# Altium footprint library 6_to_14_Pin.PcbLib: 54 footprints (part 1 of 4)
Each footprint in its own frame and in the unit in brackets; x right, y up, seen from the top. Pads: shape width x height; smd on the part's side, far side on the other; paste and mask are expansions set on the pad; w line width, h text height; cw(c..) or ccw(c..) is an arc to the next point about the centre after c.
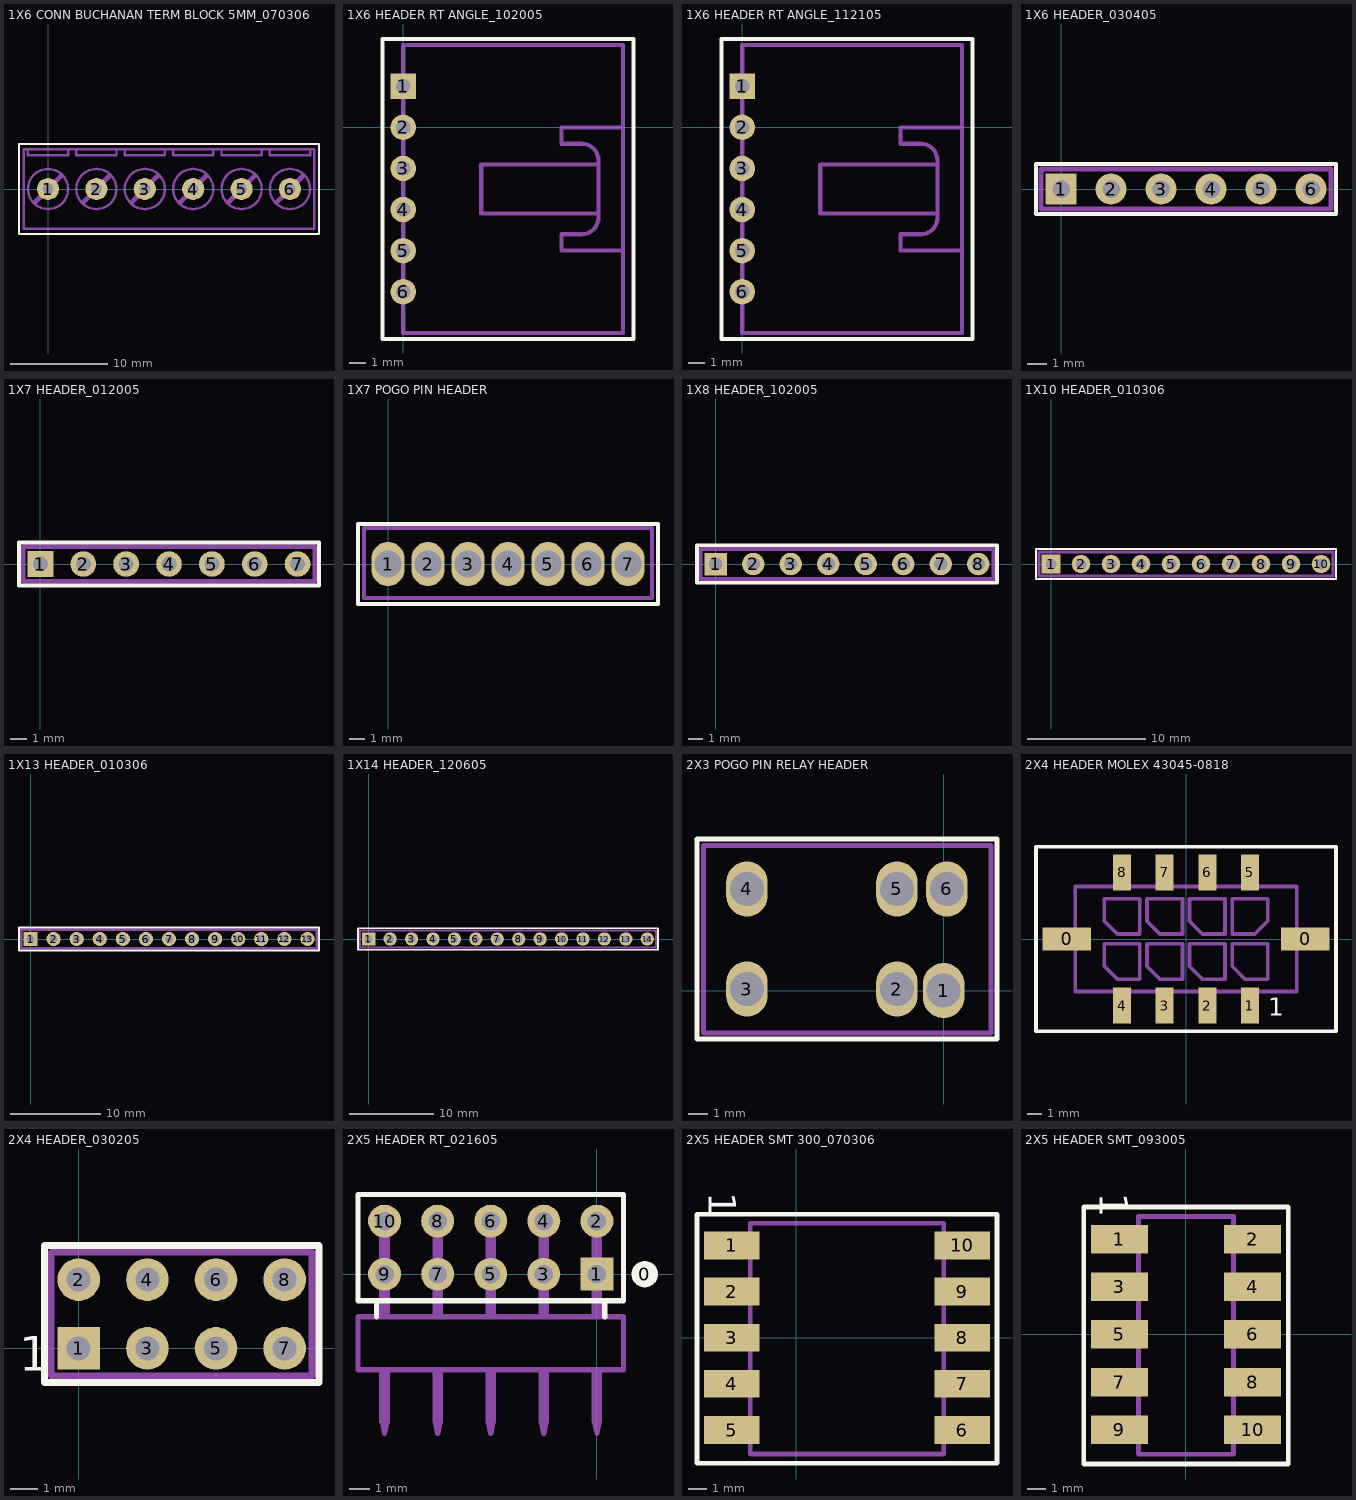
[diagram p0: the footprints below, top view; thin cyan lines are the x and y axes]

## 1X6 CONN BUCHANAN TERM BLOCK 5MM_070306 [mil] "TH"
height 393.7
pads (6):
  round 90 hole 45: 1(0,0) 2(196.85,0) 3(393.7,0) 4(590.55,0) 5(787.4,0) 6(984.25,0)
Top Overlay:
  lines w10: -118.11,-183.07 -118.11,0 -118.11,183.07 -16.73,183.07 1102.36,183.07 1102.36,0 1102.36,-183.07 1000.98,-183.07 -118.11,-183.07
Assembly Outline:
  circle w10: c0,0 r81.69
  circle w10: c196.85,0 r81.69
  circle w10: c393.7,0 r81.69
  circle w10: c590.55,0 r81.69
  circle w10: c787.4,0 r81.69
  circle w10: c984.25,0 r81.69
  lines w10: -81.69,161.42 -81.69,136.81 0,136.81 81.69,136.81 81.69,161.42 ; 115.16,161.42 115.16,136.81 196.85,136.81 278.54,136.81 278.54,161.42 ; 312.01,161.42 312.01,136.81 393.7,136.81 475.39,136.81 475.39,161.42 ; 508.86,161.42 508.86,136.81 590.55,136.81 672.24,136.81 672.24,161.42 ; 705.71,161.42 705.71,136.81 787.4,136.81 869.09,136.81 869.09,161.42 ; 902.56,161.42 902.56,136.81 984.25,136.81 1065.94,136.81 1065.94,161.42 ; -98.43,-161.42 0,-161.42 984.25,-161.42 1082.68,-161.42 1082.68,0 1082.68,161.42 984.25,161.42 0,161.42 -98.43,161.42 -98.43,0 -98.43,-161.42
  lines w20: -53.15,-53.15 0,0 53.15,53.15 ; 143.7,-53.15 196.85,0 250,53.15 ; 340.55,-53.15 393.7,0 446.85,53.15 ; 537.4,-53.15 590.55,0 643.7,53.15 ; 734.25,-53.15 787.4,0 840.55,53.15 ; 931.1,-53.15 984.25,0 1037.4,53.15
Assembly Designator:
  text ".Designator" at 464.57,-16.73 h40
Assembly Comment:
  text ".Comment" at 145.67,-113.19 h40

## 1X6 HEADER RT ANGLE_102005 [mil] "TH"
height 200
pads (6):
  rect 62x62 hole 35: 1(0,100)
  round 62 hole 35: 2(0,0) 3(0,-100) 4(0,-200) 5(0,-300) 6(0,-400)
Top Overlay:
  lines w10: -50,-515 -50,215 560,215 560,-515 -50,-515
Assembly Outline:
  lines w10: 0,-500 0,200 ; 0,-500 535,-500 ; 0,-500 535,-500 ; 0,-500 535,-500 ; 0,-500 535,-500 ; 0,200 535,200 ; 0,200 535,200 ; 0,200 535,200 ; 0,200 535,200 ; 190,-210 190,-90 ; 190,-210 475,-210 190,-210 ; 190,-90 475,-90 190,-90 ; 385,-300 385,-260 435,-260 ccw(c435,-220) 475,-220 475,-150 475,-80 ccw(c435,-80) 435,-40 385,-40 385,0 ; 385,-300 535,-300 385,-300 ; 385,0 535,0 ; 385,0 535,0 ; 535,-500 535,0 ; 535,0 535,200
Assembly Designator:
  text ".Designator" at 195,-165 h40
Assembly Comment:
  text ".Comment" at 132.87,-468.5 h40

## 1X6 HEADER RT ANGLE_112105 [mil] "TH"
height 200
pads (6):
  rect 62x62 hole 35: 1(0,100)
  round 62 hole 35: 2(0,0) 3(0,-100) 4(0,-200) 5(0,-300) 6(0,-400)
Top Overlay:
  lines w10: -50,-515 -50,215 560,215 560,-515 -50,-515
Assembly Outline:
  lines w10: 0,-500 0,200 ; 0,-500 0,200 ; 0,-500 535,-500 ; 0,-500 535,-500 ; 0,-500 535,-500 ; 0,-500 535,-500 ; 0,200 535,200 ; 0,200 535,200 ; 0,200 535,200 ; 0,200 535,200 ; 190,-210 190,-90 ; 190,-210 475,-210 190,-210 ; 190,-90 475,-90 190,-90 ; 385,-300 385,-260 435,-260 ccw(c435,-220) 475,-220 475,-150 475,-80 ccw(c435,-80) 435,-40 385,-40 385,0 ; 385,-300 535,-300 385,-300 ; 385,0 535,0 385,0 ; 535,-500 535,200
Assembly Designator:
  text ".Designator" at 195,-165 h40
Assembly Comment:
  text ".Comment" at 55,-370 h40

## 1X6 HEADER_030405 [mil] "TH"
height 300
pads (6):
  rect 62x62 hole 35: 1(0,0)
  round 62 hole 35: 2(100,0) 3(200,0) 4(300,0) 5(400,0) 6(500,0)
Top Overlay:
  lines w8: -50,-50 550,-50 550,50 -50,50 -50,-50
Assembly Outline:
  lines w8: -12,-12 -12,13 13,13 13,-12 -12,-12 ; 88,-12 88,13 113,13 113,-12 88,-12 ; 188,-12 188,13 213,13 213,-12 188,-12 ; 288,-12 288,13 313,13 313,-12 288,-12 ; 388,-12 388,13 413,13 413,-12 388,-12 ; 488,-12 488,13 513,13 513,-12 488,-12
  lines w10: -40,-40 540,-40 540,40 -40,40 -40,-40
Assembly Designator:
  text ".Designator" at 19,-17 h40
Assembly Comment:
  text ".Comment" at -13,-104 h40

## 1X7 HEADER_012005 [mil] "TH"
height 350
pads (7):
  rect 60x60 hole 35: 1(0,0)
  round 60 hole 35: 2(100,0) 3(200,0) 4(300,0) 5(400,0) 6(500,0) 7(600,0)
Top Overlay:
  lines w10: -50,-50 650,-50 650,50 -50,50 -50,-50
Assembly Outline:
  lines w10: -40,-40 -40,0 -40,40 640,40 640,-40 -40,-40
Assembly Designator:
  text ".Designator" at -29,54 h40
Assembly Comment:
  text ".Comment" at -43,-93 h40

## 1X7 POGO PIN HEADER [mil] "TH"
height 350
pads (7):
  oval 83x110 hole 68: 1(0,0) 2(100,0) 3(200,0) 4(300,0) 5(400,0) 6(500,0) 7(600,0)
Top Overlay:
  lines w10: -75,-100 -75,100 600,100 675,100 675,-100 -75,-100
Assembly Outline:
  lines w10: -60,-85 -60,90 660,90 660,-85 -60,-85
Assembly Designator:
  text ".Designator" at 190,-150 h40
Assembly Comment:
  text ".Comment" at 225,-15 h40

## 1X8 HEADER_102005 [mil] "TH"
height 350
pads (8):
  rect 60x60 hole 35: 1(0,0)
  round 60 hole 35: 2(100,0) 3(200,0) 4(300,0) 5(400,0) 6(500,0) 7(600,0) 8(700,0)
Top Overlay:
  lines w10: -50,-50 -50,50 750,50 750,-50 -50,-50
Assembly Outline:
  lines w10: -40,-40 740,-40 740,40 -40,40 -40,0 -40,-40
Assembly Designator:
  text ".Designator" at -29,54 h40
Assembly Comment:
  text ".Comment" at -43,-93 h40

## 1X10 HEADER_010306 [mil] "TH"
pads (10):
  rect 62x62 hole 35: 1(0,0)
  round 62 hole 35: 2(100,0) 3(200,0) 4(300,0) 5(400,0) 6(500,0) 7(600,0) 8(700,0) 9(800,0) 10(900,0)
Top Overlay:
  lines w8: -50,-50 950,-50 950,50 25,50 -50,50 -50,-50
Assembly Outline:
  lines w10: -40.01,-40 -40.01,40 939.99,40 939.99,-40 -40.01,-40
Assembly Designator:
  text ".Designator" at -29,54 h40
Assembly Comment:
  text ".Comment" at -43,-93 h40

## 1X13 HEADER_010306 [mil] "TH"
pads (13):
  rect 62x62 hole 35: 1(0,0)
  round 62 hole 35: 2(100,0) 3(200,0) 4(300,0) 5(400,0) 6(500,0) 7(600,0) 8(700,0) 9(800,0) 10(900,0) 11(1000,0) 12(1100,0) 13(1200,0)
Top Overlay:
  lines w8: -50,-50 1250,-50 1250,50 25,50 -50,50 -50,-50
Assembly Outline:
  lines w10: -40.01,-40 -40.01,40 1239.99,40 1239.99,-40 -40.01,-40
Assembly Designator:
  text ".Designator" at -29,54 h40
Assembly Comment:
  text ".Comment" at -43,-93 h40

## 1X14 HEADER_120605 [mil] "TH"
pads (14):
  rect 62x62 hole 35: 1(0,0)
  round 62 hole 35: 2(100,0) 3(200,0) 4(300,0) 5(400,0) 6(500,0) 7(600,0) 8(700,0) 9(800,0) 10(900,0) 11(1000,0) 12(1100,0) 13(1200,0) 14(1300,0)
Top Overlay:
  lines w8: -50,-50 -50,50 25,50 1350,50 1350,-50 -50,-50
Assembly Outline:
  lines w10: -40.01,-40 1339.99,-40 1339.99,40 -40.01,40 -40.01,-40
Assembly Designator:
  text ".Designator" at -29,54 h40
Assembly Comment:
  text ".Comment" at -43,-93 h40

## 2X3 POGO PIN RELAY HEADER [mil] "TH"
height 350
pads (6):
  oval 83x110 hole 68: 1(0,0) 2(-93.37,3.09) 3(-393.37,3.09) 4(-393.37,203.09) 5(-93.37,203.09) 6(6.63,203.09)
Top Overlay:
  lines w10: -493.37,-96.91 -493.37,303.09 106.63,303.09 106.63,3.09 106.63,-96.91 -493.37,-96.91
Assembly Outline:
  lines w10: -480,-85 95,-85 95,290 -480,290 -480,-85
Assembly Designator:
  text ".Designator" at -255,85 h40
Assembly Comment:
  text ".Comment" at -415,-145 h40

## 2X4 HEADER MOLEX 43045-0818 [mm] "SMT"
height 9.9
pads (10):
  rect 3.43x1.65 smd: 0(-8.4,0) 0(8.4,0)
  rect 1.27x2.54 smd: 1(4.5,-4.7) 2(1.5,-4.7) 3(-1.5,-4.7) 4(-4.5,-4.7) 5(4.5,4.7) 6(1.5,4.7) 7(-1.5,4.7) 8(-4.5,4.7)
Top Overlay:
  lines w0.254: -10.575,-6.5 0,-6.5 10.575,-6.5 10.575,0 10.575,6.5 0,6.5 -10.575,6.5 -10.575,0 -10.575,-6.5
  text "1" at 5.8,-5.4 h1.27
Assembly Outline:
  lines w0.254: -7.8,-0.6 -9.8,-0.6 -9.8,0 -9.8,0.6 -7.8,0.6 ; -4.825,-3.7 -4.825,-5.7 -4.5,-5.7 -4.175,-5.7 -4.175,-3.7 ; -4.825,3.7 -4.825,5.7 -4.5,5.7 -4.175,5.7 -4.175,3.7 ; -4.5,-2.825 -3.25,-2.825 ; -4.5,0.35 -3.25,0.35 ; -1.825,-3.7 -1.825,-5.7 -1.5,-5.7 -1.175,-5.7 -1.175,-3.7 ; -1.825,3.7 -1.825,5.7 -1.5,5.7 -1.175,5.7 -1.175,3.7 ; -1.5,-2.825 -0.25,-2.825 ; -1.5,0.35 -0.25,0.35 ; 1.175,-3.7 1.175,-5.7 1.5,-5.7 1.825,-5.7 1.825,-3.7 ; 1.175,3.7 1.175,5.7 1.5,5.7 1.825,5.7 1.825,3.7 ; 1.5,-2.825 2.75,-2.825 ; 1.5,0.35 2.75,0.35 ; 4.175,-3.7 4.175,-5.7 4.5,-5.7 4.825,-5.7 4.825,-3.7 ; 4.175,3.7 4.175,5.7 4.5,5.7 4.825,5.7 4.825,3.7 ; 4.5,-2.825 5.75,-2.825 ; 4.5,0.35 3.25,0.35 ; 7.8,-0.6 9.8,-0.6 9.8,0 9.8,0.6 7.8,0.6 7.8,0 ; -3.25,-2.825 -4.85,-2.825 -5.75,-1.925 -5.75,-0.325 -3.25,-0.325 -3.25,-2.825 ; -3.25,0.35 -4.85,0.35 -5.75,1.25 -5.75,2.85 -3.25,2.85 -3.25,0.35 ; -0.25,-2.825 -1.85,-2.825 -2.75,-1.925 -2.75,-0.325 -0.25,-0.325 -0.25,-2.825 ; -0.25,0.35 -1.85,0.35 -2.75,1.25 -2.75,2.85 -0.25,2.85 -0.25,0.35 ; 2.75,-2.825 1.15,-2.825 0.25,-1.925 0.25,-0.325 2.75,-0.325 2.75,-2.825 ; 2.75,0.35 1.15,0.35 0.25,1.25 0.25,2.85 2.75,2.85 2.75,0.35 ; 3.25,0.35 4.85,0.35 5.75,1.25 5.75,2.85 3.25,2.85 3.25,0.35 ; 5.75,-2.825 4.15,-2.825 3.25,-1.925 3.25,-0.325 5.75,-0.325 5.75,-2.825 ; 7.8,0 7.8,3.7 0,3.7 -7.8,3.7 -7.8,0 -7.8,-3.7 0,-3.7 7.8,-3.7 7.8,0
Assembly Designator:
  text ".Designator" at -1.15,-0.4 h1.02
Assembly Comment:
  text ".Comment" at -5.35,-2.075 h1.02

## 2X4 HEADER_030205 [mil]
pads (8):
  rect 62x62 hole 35: 1(0,0)
  round 62 hole 35: 2(0,100) 3(100,0) 4(100,100) 5(200,0) 6(200,100) 7(300,0) 8(300,100)
Top Overlay:
  lines w10: -50,-50 -50,150 350,150 350,-50 -50,-50
  text "1" at -87,-33 h50
Assembly Outline:
  lines w10: -40,-40 340,-40 340,140 -40,140 -40,-40 ; -10,-10 10,-10 10,10 -10,10 -10,-10 ; -10,90 10,90 10,110 -10,110 -10,90 ; 90,-10 110,-10 110,10 90,10 90,-10 ; 90,90 110,90 110,110 90,110 90,90 ; 190,-10 210,-10 210,10 190,10 190,-10 ; 190,90 210,90 210,110 190,110 190,90 ; 290,-10 310,-10 310,10 290,10 290,-10 ; 290,90 310,90 310,110 290,110 290,90
Assembly Designator:
  text ".Designator" at 2,34 h40
Assembly Comment:
  text ".Comment" at -42,-102 h40

## 2X5 HEADER RT_021605 [mil] "TH"
height 200
pads (11):
  round 50 on Top Overlay paste+0 mask+0: 0(90,0)
  rect 62x62 hole 35 paste+0 mask+0: 1(0,0)
  round 62 hole 35 paste+0 mask+0: 2(0,100) 3(-100,0) 4(-100,100) 5(-200,0) 6(-200,100) 7(-300,0) 8(-300,100) 9(-400,0) 10(-400,100)
Top Overlay:
  lines w10: -415,-80 -415,-50 ; 15,-80 15,-50 ; -450,-50 50,-50 50,150 -450,150 -450,-50
Assembly Outline:
  rectangle: -10,-280 10,-180
  rectangle: -110,-280 -90,-180
  rectangle: -210,-280 -190,-180
  rectangle: -310,-280 -290,-180
  rectangle: -410,-280 -390,-180
  rectangle: -10,-80 10,100
  rectangle: -110,-80 -90,105
  rectangle: -210,-80 -190,100
  rectangle: -310,-80 -290,100
  rectangle: -410,-80 -390,100
  lines w10: -405,-275 -400,-300 -395,-275 ; -305,-275 -300,-300 -295,-275 ; -205,-275 -200,-300 -195,-275 ; -105,-275 -100,-300 -95,-275 ; -5,-275 0,-300 5,-275 ; -450,-180 50,-180 50,-80 -450,-80 -450,-180
Assembly Designator:
  text ".Designator" at -265,35 h40
Assembly Comment:
  text ".Comment" at -430,-150 h40

## 2X5 HEADER SMT 300_070306 [mil] "SMT"
height 220
pads (10):
  rect 120x60 smd: 1(-140,200) 2(-140,100) 3(-140,0) 4(-140,-100) 5(-140,-200) 6(360,-200) 7(360,-100) 8(360,0) 9(360,100) 10(360,200)
Top Overlay:
  lines w10: -215,-272.2 -215,-249.7 -215,267.8 0,267.8 435,267.8 435,175.3 435,-272.2 0,-272.2 -215,-272.2
  text "1" at -190,315 h60
Assembly Outline:
  lines w10: -100,-215 -160,-215 -160,-200 -160,-185 -100,-185 ; -100,-115 -160,-115 -160,-100 -160,-85 -100,-85 ; -100,-15 -160,-15 -160,0 -160,15 -100,15 ; -100,85 -160,85 -160,100 -160,115 -100,115 ; -100,185 -160,185 -160,200 -160,215 -100,215 ; 320,-215 380,-215 380,-200 380,-185 320,-185 ; 320,-115 380,-115 380,-100 380,-85 320,-85 ; 320,-15 380,-15 380,0 380,15 320,15 ; 320,85 380,85 380,100 380,115 320,115 ; 320,185 380,185 380,200 380,215 320,215 ; -100,-251.97 320,-251.97 320,248.03 0,248.03 -100,248.03 -100,-251.97
Assembly Designator:
  text ".Designator" at 80,-15 h40
Assembly Comment:
  text ".Comment" at -190,-330 h40

## 2X5 HEADER SMT_093005 [mil] "TH"
height 500
pads (10):
  rect 120x60 smd: 1(-140,200) 2(140,200) 3(-140,100) 4(140,100) 5(-140,0) 6(140,0) 7(-140,-100) 8(140,-100) 9(-140,-200) 10(140,-200)
Top Overlay:
  lines w10: -215,-272.2 -215,-249.7 -215,267.8 0,267.8 215,267.8 215,175.3 215,-272.2 0,-272.2 -215,-272.2
  text "1" at -181.1,298.23 h60
Assembly Outline:
  lines w10: -100,-215 -160,-215 -160,-200 -160,-185 -100,-185 ; -100,-115 -160,-115 -160,-100 -160,-85 -100,-85 ; -100,-15 -160,-15 -160,0 -160,15 -100,15 ; -100,85 -160,85 -160,100 -160,115 -100,115 ; -100,185 -160,185 -160,200 -160,215 -100,215 ; 100,-215 160,-215 160,-200 160,-185 100,-185 ; 100,-115 160,-115 160,-100 160,-85 100,-85 ; 100,-15 160,-15 160,0 160,15 100,15 ; 100,85 160,85 160,100 160,115 100,115 ; 100,185 160,185 160,200 160,215 100,215 ; -100,-251.97 -100,248.03 0,248.03 100,248.03 100,-251.97 -100,-251.97
Assembly Designator:
  text ".Designator" at -38.39,-22.64 h40
Assembly Comment:
  text ".Comment" at -210.63,-352.36 h40